# Altium schematic symbol library MSS-102564-D.SchLib: 1 symbol
Pins are listed as number, name and electrical type; pins without a type are passive.

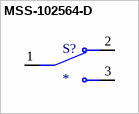
[diagram p0: symbol MSS-102564-D]

## MSS-102564-D
designator S?
10 x 2.5 x 6.4 mm, Flush Slide Actuator, Through Hole, Miniature Slide Switch; MF: Same Sky; MP: MSS-102564-D; SnapEDA_Link: https://www.snapeda.com/parts/MSS-102564-D/Same+Sky/view-part/?ref=snap; Package: None; Value: *; Check_prices: https://www.snapeda.com/parts/MSS-102564-D/Same+Sky/view-part/?ref=eda
footprint SW_MSS-102564-D
pins: 1, 2, 3